# Altium schematic symbol library inhibits.SchLib: 11 symbols
Pins are listed as number, name and electrical type; pins without a type are passive.

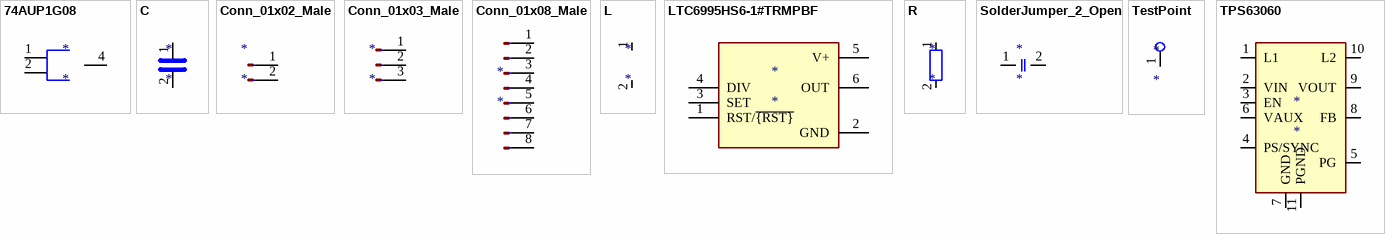
[diagram p0: symbols 74AUP1G08 to TPS63060]

## 74AUP1G08
designator *
pins: 1, 2, 3 GND hidden, 4, 5 VCC hidden

## C
designator *
pins: 1, 2

## Conn_01x02_Male
designator *
pins: 1 Pin_1, 2 Pin_2

## Conn_01x03_Male
designator *
pins: 1 Pin_1, 2 Pin_2, 3 Pin_3

## Conn_01x08_Male
designator *
pins: 1 Pin_1, 2 Pin_2, 3 Pin_3, 4 Pin_4, 5 Pin_5, 6 Pin_6, 7 Pin_7, 8 Pin_8

## L
designator *
pins: 1, 2

## LTC6995HS6-1#TRMPBF
designator *
pins: 1 RST/~{{RST}}, 2 GND, 3 SET, 4 DIV, 5 V+, 6 OUT

## R
designator *
pins: 1, 2

## SolderJumper_2_Open
designator *
pins: 1 A, 2 B

## TestPoint
designator *
pins: 1

## TPS63060
designator *
pins: 1 L1, 2 VIN, 3 EN, 4 PS/SYNC, 5 PG, 6 VAUX, 7 GND, 8 FB, 9 VOUT, 10 L2, 11 PGND